# EAGLE library part JTAGICE3_SWD (library connector)
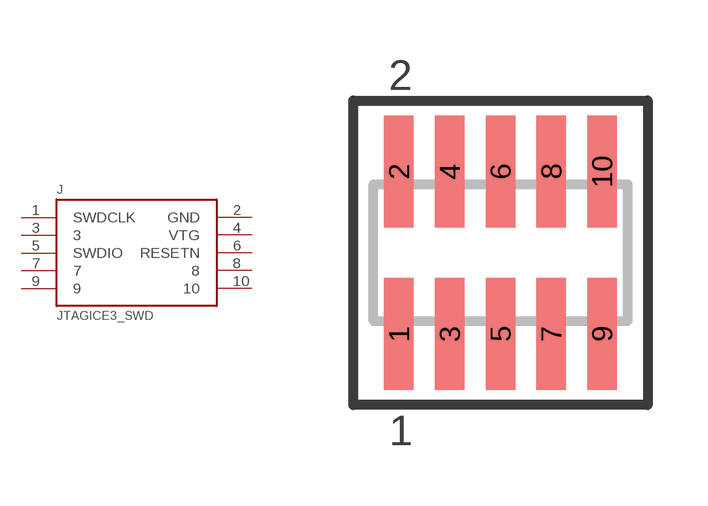
[diagram p4: symbol with the pads of FTSH-105-01-XXX-DV-K; footprint FTSH-105-01-XXX-DV-K]

Designator prefix J

## JTAGICE3_SWD  [FTSH-105-01-XXX-DV-K]
1  SWDCLK
2  GND
3  3
4  VTG
5  SWDIO
6  RESETN
7  7
8  8
9  9
10  10

## Footprint FTSH-105-01-XXX-DV-K (pad centres in mm)
0.05"x0.05" DOUBLE ROW SMT STRIP ASSEMBLY. MANUFACTURER:SAMTEC.
smd 0.737 x 2.794: 1 -2.54,-2.032; 2 -2.54,2.032; 3 -1.27,-2.032; 4 -1.27,2.032; 5 0,-2.032; 6 0,2.032; 7 1.27,-2.032; 8 1.27,2.032; 9 2.54,-2.032; 10 2.54,2.032